# Altium footprint library SPMWHD32AMH0XAR0PR.PcbLib: 1 footprints
Each footprint in its own frame and in the unit in brackets; x right, y up, seen from the top. Pads: shape width x height; smd on the part's side, far side on the other; paste and mask are expansions set on the pad; w line width, h text height; cw(c..) or ccw(c..) is an arc to the next point about the centre after c.
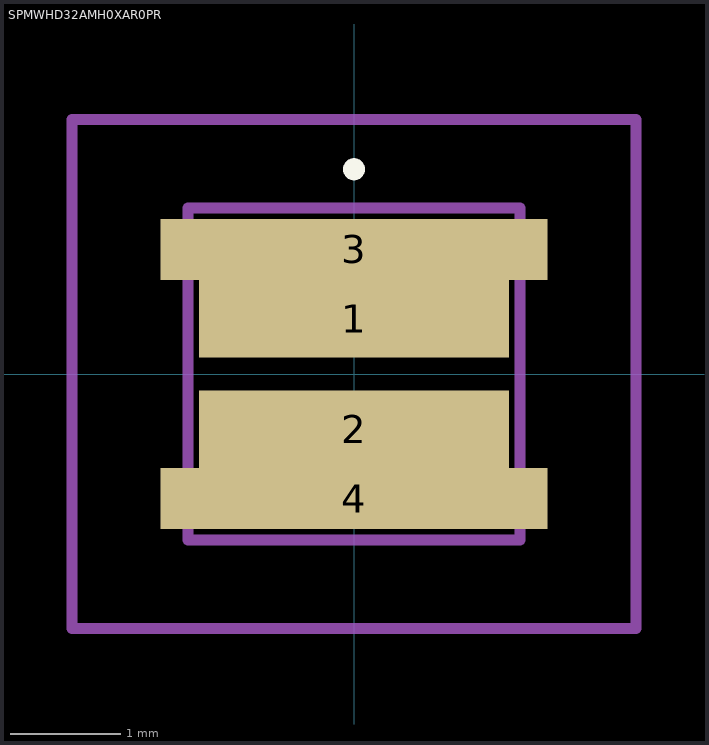
[diagram p0: the footprint, top view; thin cyan lines are the x and y axes]

## SPMWHD32AMH0XAR0PR [mm]
pads (4):
  rect 2.8x0.7 smd: 1(0,0.5) 2(0,-0.5)
  rect 3.5x0.55 smd: 3(0,1.125) 4(0,-1.125)
Top Overlay:
  lines w0.1: 0,1.8 0,1.8 ; 0,1.8 ccw(c0,1.85) 0,1.9 ; 0,1.8 cw(c0,1.85) 0,1.9 ; 0,1.9 0,1.9
Mechanical 15:
  lines w0.1: -1.5,-1.5 1.5,-1.5 1.5,1.5 -1.5,1.5 -1.5,-1.5
Mechanical 20:
  lines w0.1: -2.55,-2.3 2.55,-2.3 2.55,2.3 -2.55,2.3 -2.55,-2.3